# Altium integrated library Maxim Analog Filters.IntLib: 555 symbols (part 1 of 26)
Pins are listed as number, name and electrical type; pins without a type are passive.

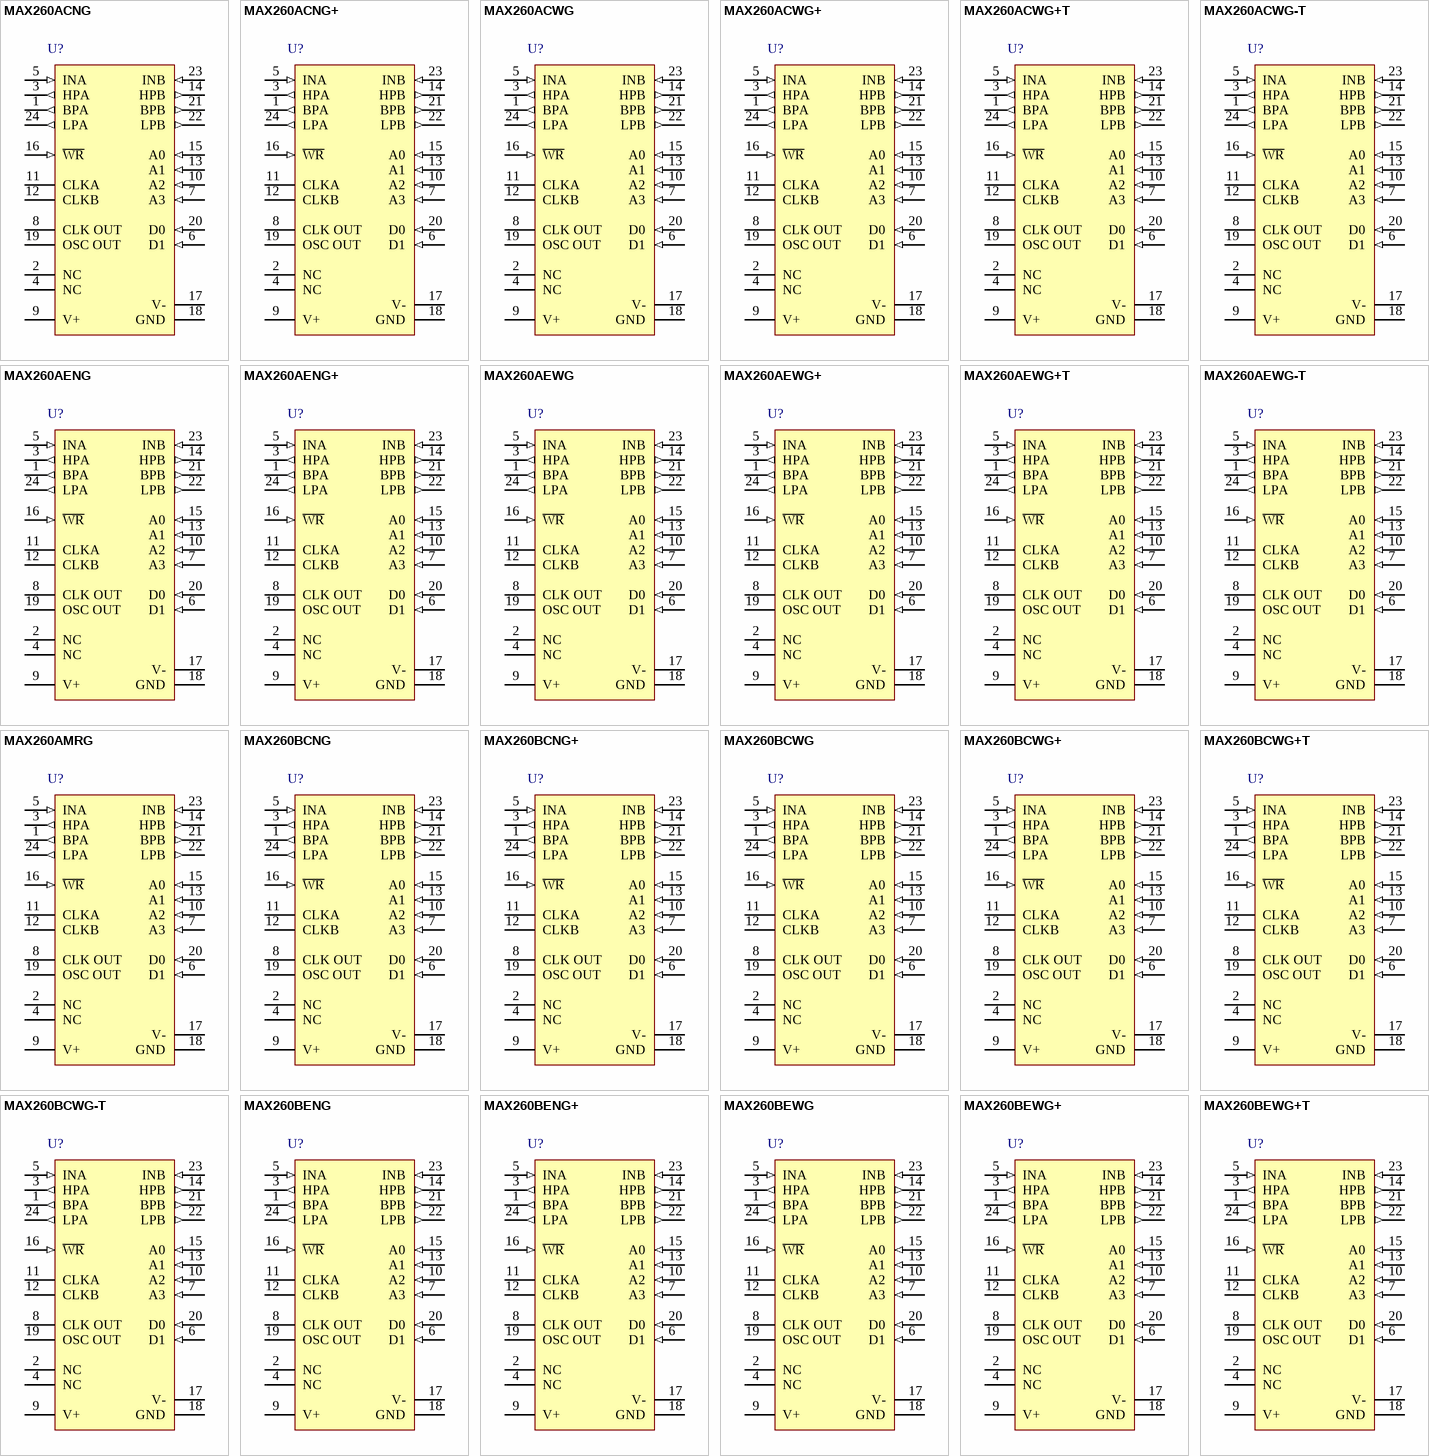
[diagram p0: symbols MAX260ACNG to MAX260BEWG+T]

## MAX260ACNG
designator U?
Universal Switched Capacitor Filter, uP Bus Programmable, 0 to 70 degC, 24-Pin DIP (N24-4); Generic Part Number: MAX260; PartNumber: MAX260ACNG; Filter Sections: 2; Program Method: uP Bus; DatasheetVersion: Rev. 2; PackageVersion: Rev. E, 04/2011; PackageReference: N24-4; PackageDescription: 24-Pin Plastic Dual-In-Line, Narrow (0.3in) (N24-4), Body 30.545 x 6.895 mm, Pitch 2.54 mm; Supplier 1: Mouser; Supplier Part Number 1: N/A; Filter Characteristic: Programmable; Filter Class: Switched Cap; Filter Type: Universal; Order Per Filter Section: 2; Mounting Technology: Through Hole; Code_JEDEC: MS001-XX; ComponentLink1Description: Manufacturer URL; ComponentLink1URL: http://www.maximintegrated.com/; ComponentLink2Description: Datasheet; ComponentLink2URL: http://datasheets.maximintegrated.com/en/ds/MAX260-MAX262.pdf; ComponentLink3Description: Package Specification; ComponentLink3URL: http://pdfserv.maximintegrated.com/package_dwgs/21-0043.PDF
footprint MAXM-N24-4 (DIP, 24-Leads, Body 30.545x6.985mm, Pitch 2.54mm)
pins: 1 BPA (out) "Bandpass output", 2 NC, 3 HPA (out) "Highpass/notch/allpass output", 4 NC, 5 INA (in) "Filter input", 6 D1 (in) "Data input for f0 and Q programming", 7 A3 (in) "Address input for f0 and Q input data locations", 8 CLK OUT "Clock output for crystal and R-C oscillator operation", 9 V+ (power) "Positive supply voltage", 10 A2 (in) "Address input for f0 and Q input data locations", 11 CLKA "Input to the oscillator and clock input to section A. This clock is internally divided by 2.", 12 CLKB "Clock input to filter B. This clock is internally divided by 2.", 13 A1 (in) "Address input for f0 and Q input data locations", 14 HPB (out) "Highpass/notch/allpass output", 15 A0 (in) "Address input for f0 and Q input data locations", 16 ~{WR} (in) "Write enable input", 17 V- (power) "Negative supply voltage", 18 GND (power) "Analog Ground. Connect to the system ground for dual supply operation or mid-supply for single supply operation. GND should be well bypassed in single supply applications.", 19 OSC OUT "Connects to crystal or R-C for self-clocked operation", 20 D0 (in) "Data input for f0 and Q programming", 21 BPB (out) "Bandpass output", 22 LPB (out) "Lowpass output", 23 INB (in) "Filter input", 24 LPA (out) "Lowpass output"

## MAX260ACNG+
designator U?
Universal Switched Capacitor Filter, uP Bus Programmable, 0 to 70 degC, 24-Pin DIP (N24+4), Pb-Free; Generic Part Number: MAX260; PartNumber: MAX260ACNG+; Filter Sections: 2; Program Method: uP Bus; DatasheetVersion: Rev. 2; PackageVersion: Rev. E, 04/2011; PackageReference: N24+4; PackageDescription: 24-Pin Plastic Dual-In-Line, Narrow (0.3in) (N24+4), Body 30.545 x 6.985 mm, Pitch 2.54 mm; Supplier 1: Mouser; Supplier Part Number 1: N/A; Filter Characteristic: Programmable; Filter Class: Switched Cap; Filter Type: Universal; Order Per Filter Section: 2; RoHS: Pb-Free; Mounting Technology: Through Hole; Code_JEDEC: MS001-XX; ComponentLink1Description: Manufacturer URL; ComponentLink1URL: http://www.maximintegrated.com/; ComponentLink2Description: Datasheet; ComponentLink2URL: http://datasheets.maximintegrated.com/en/ds/MAX260-MAX262.pdf; ComponentLink3Description: Package Specification; ComponentLink3URL: http://pdfserv.maximintegrated.com/package_dwgs/21-0043.PDF
footprint MAXM-N24+4 (DIP, 24-Leads, Body 30.545x6.985mm, Pitch 2.54mm)
pins: 1 BPA (out) "Bandpass output", 2 NC, 3 HPA (out) "Highpass/notch/allpass output", 4 NC, 5 INA (in) "Filter input", 6 D1 (in) "Data input for f0 and Q programming", 7 A3 (in) "Address input for f0 and Q input data locations", 8 CLK OUT "Clock output for crystal and R-C oscillator operation", 9 V+ (power) "Positive supply voltage", 10 A2 (in) "Address input for f0 and Q input data locations", 11 CLKA "Input to the oscillator and clock input to section A. This clock is internally divided by 2.", 12 CLKB "Clock input to filter B. This clock is internally divided by 2.", 13 A1 (in) "Address input for f0 and Q input data locations", 14 HPB (out) "Highpass/notch/allpass output", 15 A0 (in) "Address input for f0 and Q input data locations", 16 ~{WR} (in) "Write enable input", 17 V- (power) "Negative supply voltage", 18 GND (power) "Analog Ground. Connect to the system ground for dual supply operation or mid-supply for single supply operation. GND should be well bypassed in single supply applications.", 19 OSC OUT "Connects to crystal or R-C for self-clocked operation", 20 D0 (in) "Data input for f0 and Q programming", 21 BPB (out) "Bandpass output", 22 LPB (out) "Lowpass output", 23 INB (in) "Filter input", 24 LPA (out) "Lowpass output"

## MAX260ACWG
designator U?
Universal Switched Capacitor Filter, uP Bus Programmable, 0 to 70 degC, 24-Pin SOIC (W24-3); Generic Part Number: MAX260; PartNumber: MAX260ACWG; Filter Sections: 2; Program Method: uP Bus; DatasheetVersion: Rev. 2; PackageVersion: Rev. F, 10/2012; PackageReference: W24-3; PackageDescription: 24-Pin Small-Outline IC, Wide (0.3in) (W24-3), Body 15.4 x 7.5 mm, Pitch 1.27 mm; Supplier 1: Mouser; Supplier Part Number 1: N/A; Filter Characteristic: Programmable; Filter Class: Switched Cap; Filter Type: Universal; Order Per Filter Section: 2; Mounting Technology: Surface Mount; Code_JEDEC: MS013; ComponentLink1Description: Manufacturer URL; ComponentLink1URL: http://www.maximintegrated.com/; ComponentLink2Description: Datasheet; ComponentLink2URL: http://datasheets.maximintegrated.com/en/ds/MAX260-MAX262.pdf; ComponentLink3Description: Package Specification; ComponentLink3URL: http://pdfserv.maximintegrated.com/package_dwgs/21-0042.PDF
footprint MAXM-W24-3_N (SOIC, 24-Leads, Body 15.4x7.5mm, Pitch 1.27mm, IPC Medium Density)
footprint MAXM-W24-3_L (SOIC, 24-Leads, Body 15.4x7.5mm, Pitch 1.27mm, IPC High Density)
footprint MAXM-W24-3_M (SOIC, 24-Leads, Body 15.4x7.5mm, Pitch 1.27mm, IPC Low Density)
pins: 1 BPA (out) "Bandpass output", 2 NC, 3 HPA (out) "Highpass/notch/allpass output", 4 NC, 5 INA (in) "Filter input", 6 D1 (in) "Data input for f0 and Q programming", 7 A3 (in) "Address input for f0 and Q input data locations", 8 CLK OUT "Clock output for crystal and R-C oscillator operation", 9 V+ (power) "Positive supply voltage", 10 A2 (in) "Address input for f0 and Q input data locations", 11 CLKA "Input to the oscillator and clock input to section A. This clock is internally divided by 2.", 12 CLKB "Clock input to filter B. This clock is internally divided by 2.", 13 A1 (in) "Address input for f0 and Q input data locations", 14 HPB (out) "Highpass/notch/allpass output", 15 A0 (in) "Address input for f0 and Q input data locations", 16 ~{WR} (in) "Write enable input", 17 V- (power) "Negative supply voltage", 18 GND (power) "Analog Ground. Connect to the system ground for dual supply operation or mid-supply for single supply operation. GND should be well bypassed in single supply applications.", 19 OSC OUT "Connects to crystal or R-C for self-clocked operation", 20 D0 (in) "Data input for f0 and Q programming", 21 BPB (out) "Bandpass output", 22 LPB (out) "Lowpass output", 23 INB (in) "Filter input", 24 LPA (out) "Lowpass output"

## MAX260ACWG+
designator U?
Universal Switched Capacitor Filter, uP Bus Programmable, 0 to 70 degC, 24-Pin SOIC (W24+3), Pb-Free; Generic Part Number: MAX260; PartNumber: MAX260ACWG+; Filter Sections: 2; Program Method: uP Bus; DatasheetVersion: Rev. 2; PackageVersion: Rev. F, 10/2012; PackageReference: W24+3; PackageDescription: 24-Pin Small-Outline IC, Wide (0.3in) (W24+3), Body 15.4 x 7.5 mm, Pitch 1.27 mm; Supplier 1: Mouser; Supplier Part Number 1: N/A; Filter Characteristic: Programmable; Filter Class: Switched Cap; Filter Type: Universal; Order Per Filter Section: 2; RoHS: Pb-Free; Mounting Technology: Surface Mount; Code_JEDEC: MS013; ComponentLink1Description: Manufacturer URL; ComponentLink1URL: http://www.maximintegrated.com/; ComponentLink2Description: Datasheet; ComponentLink2URL: http://datasheets.maximintegrated.com/en/ds/MAX260-MAX262.pdf; ComponentLink3Description: Package Specification; ComponentLink3URL: http://pdfserv.maximintegrated.com/package_dwgs/21-0042.PDF
footprint MAXM-W24+3_N (SOIC, 24-Leads, Body 15.4x7.5mm, Pitch 1.27mm, IPC Medium Density)
footprint MAXM-W24+3_L (SOIC, 24-Leads, Body 15.4x7.5mm, Pitch 1.27mm, IPC High Density)
footprint MAXM-W24+3_M (SOIC, 24-Leads, Body 15.4x7.5mm, Pitch 1.27mm, IPC Low Density)
pins: 1 BPA (out) "Bandpass output", 2 NC, 3 HPA (out) "Highpass/notch/allpass output", 4 NC, 5 INA (in) "Filter input", 6 D1 (in) "Data input for f0 and Q programming", 7 A3 (in) "Address input for f0 and Q input data locations", 8 CLK OUT "Clock output for crystal and R-C oscillator operation", 9 V+ (power) "Positive supply voltage", 10 A2 (in) "Address input for f0 and Q input data locations", 11 CLKA "Input to the oscillator and clock input to section A. This clock is internally divided by 2.", 12 CLKB "Clock input to filter B. This clock is internally divided by 2.", 13 A1 (in) "Address input for f0 and Q input data locations", 14 HPB (out) "Highpass/notch/allpass output", 15 A0 (in) "Address input for f0 and Q input data locations", 16 ~{WR} (in) "Write enable input", 17 V- (power) "Negative supply voltage", 18 GND (power) "Analog Ground. Connect to the system ground for dual supply operation or mid-supply for single supply operation. GND should be well bypassed in single supply applications.", 19 OSC OUT "Connects to crystal or R-C for self-clocked operation", 20 D0 (in) "Data input for f0 and Q programming", 21 BPB (out) "Bandpass output", 22 LPB (out) "Lowpass output", 23 INB (in) "Filter input", 24 LPA (out) "Lowpass output"

## MAX260ACWG+T
designator U?
Universal Switched Capacitor Filter, uP Bus Programmable, 0 to 70 degC, 24-Pin SOIC (W24+3), Pb-Free, Tape and Reel; Generic Part Number: MAX260; PartNumber: MAX260ACWG+T; Filter Sections: 2; Program Method: uP Bus; DatasheetVersion: Rev. 2; PackageVersion: Rev. F, 10/2012; PackageReference: W24+3; PackageDescription: 24-Pin Small-Outline IC, Wide (0.3in) (W24+3), Body 15.4 x 7.5 mm, Pitch 1.27 mm; Supplier 1: Mouser; Supplier Part Number 1: N/A; Filter Characteristic: Programmable; Filter Class: Switched Cap; Filter Type: Universal; Order Per Filter Section: 2; Packing: Tape and Reel; RoHS: Pb-Free; Mounting Technology: Surface Mount; Code_JEDEC: MS013; ComponentLink1Description: Manufacturer URL; ComponentLink1URL: http://www.maximintegrated.com/; ComponentLink2Description: Datasheet; ComponentLink2URL: http://datasheets.maximintegrated.com/en/ds/MAX260-MAX262.pdf; ComponentLink3Description: Package Specification; ComponentLink3URL: http://pdfserv.maximintegrated.com/package_dwgs/21-0042.PDF
footprint MAXM-W24+3_N (SOIC, 24-Leads, Body 15.4x7.5mm, Pitch 1.27mm, IPC Medium Density)
footprint MAXM-W24+3_L (SOIC, 24-Leads, Body 15.4x7.5mm, Pitch 1.27mm, IPC High Density)
footprint MAXM-W24+3_M (SOIC, 24-Leads, Body 15.4x7.5mm, Pitch 1.27mm, IPC Low Density)
pins: 1 BPA (out) "Bandpass output", 2 NC, 3 HPA (out) "Highpass/notch/allpass output", 4 NC, 5 INA (in) "Filter input", 6 D1 (in) "Data input for f0 and Q programming", 7 A3 (in) "Address input for f0 and Q input data locations", 8 CLK OUT "Clock output for crystal and R-C oscillator operation", 9 V+ (power) "Positive supply voltage", 10 A2 (in) "Address input for f0 and Q input data locations", 11 CLKA "Input to the oscillator and clock input to section A. This clock is internally divided by 2.", 12 CLKB "Clock input to filter B. This clock is internally divided by 2.", 13 A1 (in) "Address input for f0 and Q input data locations", 14 HPB (out) "Highpass/notch/allpass output", 15 A0 (in) "Address input for f0 and Q input data locations", 16 ~{WR} (in) "Write enable input", 17 V- (power) "Negative supply voltage", 18 GND (power) "Analog Ground. Connect to the system ground for dual supply operation or mid-supply for single supply operation. GND should be well bypassed in single supply applications.", 19 OSC OUT "Connects to crystal or R-C for self-clocked operation", 20 D0 (in) "Data input for f0 and Q programming", 21 BPB (out) "Bandpass output", 22 LPB (out) "Lowpass output", 23 INB (in) "Filter input", 24 LPA (out) "Lowpass output"

## MAX260ACWG-T
designator U?
Universal Switched Capacitor Filter, uP Bus Programmable, 0 to 70 degC, 24-Pin SOIC (W24-3), Tape and Reel; Generic Part Number: MAX260; PartNumber: MAX260ACWG-T; Filter Sections: 2; Program Method: uP Bus; DatasheetVersion: Rev. 2; PackageVersion: Rev. F, 10/2012; PackageReference: W24-3; PackageDescription: 24-Pin Small-Outline IC, Wide (0.3in) (W24-3), Body 15.4 x 7.5 mm, Pitch 1.27 mm; Supplier 1: Mouser; Supplier Part Number 1: N/A; Filter Characteristic: Programmable; Filter Class: Switched Cap; Filter Type: Universal; Order Per Filter Section: 2; Packing: Tape and Reel; Mounting Technology: Surface Mount; Code_JEDEC: MS013; ComponentLink1Description: Manufacturer URL; ComponentLink1URL: http://www.maximintegrated.com/; ComponentLink2Description: Datasheet; ComponentLink2URL: http://datasheets.maximintegrated.com/en/ds/MAX260-MAX262.pdf; ComponentLink3Description: Package Specification; ComponentLink3URL: http://pdfserv.maximintegrated.com/package_dwgs/21-0042.PDF
footprint MAXM-W24-3_N (SOIC, 24-Leads, Body 15.4x7.5mm, Pitch 1.27mm, IPC Medium Density)
footprint MAXM-W24-3_L (SOIC, 24-Leads, Body 15.4x7.5mm, Pitch 1.27mm, IPC High Density)
footprint MAXM-W24-3_M (SOIC, 24-Leads, Body 15.4x7.5mm, Pitch 1.27mm, IPC Low Density)
pins: 1 BPA (out) "Bandpass output", 2 NC, 3 HPA (out) "Highpass/notch/allpass output", 4 NC, 5 INA (in) "Filter input", 6 D1 (in) "Data input for f0 and Q programming", 7 A3 (in) "Address input for f0 and Q input data locations", 8 CLK OUT "Clock output for crystal and R-C oscillator operation", 9 V+ (power) "Positive supply voltage", 10 A2 (in) "Address input for f0 and Q input data locations", 11 CLKA "Input to the oscillator and clock input to section A. This clock is internally divided by 2.", 12 CLKB "Clock input to filter B. This clock is internally divided by 2.", 13 A1 (in) "Address input for f0 and Q input data locations", 14 HPB (out) "Highpass/notch/allpass output", 15 A0 (in) "Address input for f0 and Q input data locations", 16 ~{WR} (in) "Write enable input", 17 V- (power) "Negative supply voltage", 18 GND (power) "Analog Ground. Connect to the system ground for dual supply operation or mid-supply for single supply operation. GND should be well bypassed in single supply applications.", 19 OSC OUT "Connects to crystal or R-C for self-clocked operation", 20 D0 (in) "Data input for f0 and Q programming", 21 BPB (out) "Bandpass output", 22 LPB (out) "Lowpass output", 23 INB (in) "Filter input", 24 LPA (out) "Lowpass output"

## MAX260AENG
designator U?
Universal Switched Capacitor Filter, uP Bus Programmable, -40 to 85 degC, 24-Pin DIP (N24-4); Generic Part Number: MAX260; PartNumber: MAX260AENG; Filter Sections: 2; Program Method: uP Bus; DatasheetVersion: Rev. 2; PackageVersion: Rev. E, 04/2011; PackageReference: N24-4; PackageDescription: 24-Pin Plastic Dual-In-Line, Narrow (0.3in) (N24-4), Body 30.545 x 6.895 mm, Pitch 2.54 mm; Supplier 1: Mouser; Supplier Part Number 1: N/A; Filter Characteristic: Programmable; Filter Class: Switched Cap; Filter Type: Universal; Order Per Filter Section: 2; Mounting Technology: Through Hole; Code_JEDEC: MS001-XX; ComponentLink1Description: Manufacturer URL; ComponentLink1URL: http://www.maximintegrated.com/; ComponentLink2Description: Datasheet; ComponentLink2URL: http://datasheets.maximintegrated.com/en/ds/MAX260-MAX262.pdf; ComponentLink3Description: Package Specification; ComponentLink3URL: http://pdfserv.maximintegrated.com/package_dwgs/21-0043.PDF
footprint MAXM-N24-4 (DIP, 24-Leads, Body 30.545x6.985mm, Pitch 2.54mm)
pins: 1 BPA (out) "Bandpass output", 2 NC, 3 HPA (out) "Highpass/notch/allpass output", 4 NC, 5 INA (in) "Filter input", 6 D1 (in) "Data input for f0 and Q programming", 7 A3 (in) "Address input for f0 and Q input data locations", 8 CLK OUT "Clock output for crystal and R-C oscillator operation", 9 V+ (power) "Positive supply voltage", 10 A2 (in) "Address input for f0 and Q input data locations", 11 CLKA "Input to the oscillator and clock input to section A. This clock is internally divided by 2.", 12 CLKB "Clock input to filter B. This clock is internally divided by 2.", 13 A1 (in) "Address input for f0 and Q input data locations", 14 HPB (out) "Highpass/notch/allpass output", 15 A0 (in) "Address input for f0 and Q input data locations", 16 ~{WR} (in) "Write enable input", 17 V- (power) "Negative supply voltage", 18 GND (power) "Analog Ground. Connect to the system ground for dual supply operation or mid-supply for single supply operation. GND should be well bypassed in single supply applications.", 19 OSC OUT "Connects to crystal or R-C for self-clocked operation", 20 D0 (in) "Data input for f0 and Q programming", 21 BPB (out) "Bandpass output", 22 LPB (out) "Lowpass output", 23 INB (in) "Filter input", 24 LPA (out) "Lowpass output"

## MAX260AENG+
designator U?
Universal Switched Capacitor Filter, uP Bus Programmable, -40 to 85 degC, 24-Pin DIP (N24+4), Pb-Free; Generic Part Number: MAX260; PartNumber: MAX260AENG+; Filter Sections: 2; Program Method: uP Bus; DatasheetVersion: Rev. 2; PackageVersion: Rev. E, 04/2011; PackageReference: N24+4; PackageDescription: 24-Pin Plastic Dual-In-Line, Narrow (0.3in) (N24+4), Body 30.545 x 6.985 mm, Pitch 2.54 mm; Filter Characteristic: Programmable; Filter Class: Switched Cap; Filter Type: Universal; Order Per Filter Section: 2; RoHS: Pb-Free; Mounting Technology: Through Hole; Code_JEDEC: MS001-XX; ComponentLink1Description: Manufacturer URL; ComponentLink1URL: http://www.maximintegrated.com/; ComponentLink2Description: Datasheet; ComponentLink2URL: http://datasheets.maximintegrated.com/en/ds/MAX260-MAX262.pdf; ComponentLink3Description: Package Specification; ComponentLink3URL: http://pdfserv.maximintegrated.com/package_dwgs/21-0043.PDF
footprint MAXM-N24+4 (DIP, 24-Leads, Body 30.545x6.985mm, Pitch 2.54mm)
pins: 1 BPA (out) "Bandpass output", 2 NC, 3 HPA (out) "Highpass/notch/allpass output", 4 NC, 5 INA (in) "Filter input", 6 D1 (in) "Data input for f0 and Q programming", 7 A3 (in) "Address input for f0 and Q input data locations", 8 CLK OUT "Clock output for crystal and R-C oscillator operation", 9 V+ (power) "Positive supply voltage", 10 A2 (in) "Address input for f0 and Q input data locations", 11 CLKA "Input to the oscillator and clock input to section A. This clock is internally divided by 2.", 12 CLKB "Clock input to filter B. This clock is internally divided by 2.", 13 A1 (in) "Address input for f0 and Q input data locations", 14 HPB (out) "Highpass/notch/allpass output", 15 A0 (in) "Address input for f0 and Q input data locations", 16 ~{WR} (in) "Write enable input", 17 V- (power) "Negative supply voltage", 18 GND (power) "Analog Ground. Connect to the system ground for dual supply operation or mid-supply for single supply operation. GND should be well bypassed in single supply applications.", 19 OSC OUT "Connects to crystal or R-C for self-clocked operation", 20 D0 (in) "Data input for f0 and Q programming", 21 BPB (out) "Bandpass output", 22 LPB (out) "Lowpass output", 23 INB (in) "Filter input", 24 LPA (out) "Lowpass output"

## MAX260AEWG
designator U?
Universal Switched Capacitor Filter, uP Bus Programmable, -40 to 85 degC, 24-Pin SOIC (W24-3); Generic Part Number: MAX260; PartNumber: MAX260AEWG; Filter Sections: 2; Program Method: uP Bus; DatasheetVersion: Rev. 2; PackageVersion: Rev. F, 10/2012; PackageReference: W24-3; PackageDescription: 24-Pin Small-Outline IC, Wide (0.3in) (W24-3), Body 15.4 x 7.5 mm, Pitch 1.27 mm; Supplier 1: Mouser; Supplier Part Number 1: N/A; Filter Characteristic: Programmable; Filter Class: Switched Cap; Filter Type: Universal; Order Per Filter Section: 2; Mounting Technology: Surface Mount; Code_JEDEC: MS013; ComponentLink1Description: Manufacturer URL; ComponentLink1URL: http://www.maximintegrated.com/; ComponentLink2Description: Datasheet; ComponentLink2URL: http://datasheets.maximintegrated.com/en/ds/MAX260-MAX262.pdf; ComponentLink3Description: Package Specification; ComponentLink3URL: http://pdfserv.maximintegrated.com/package_dwgs/21-0042.PDF
footprint MAXM-W24-3_N (SOIC, 24-Leads, Body 15.4x7.5mm, Pitch 1.27mm, IPC Medium Density)
footprint MAXM-W24-3_L (SOIC, 24-Leads, Body 15.4x7.5mm, Pitch 1.27mm, IPC High Density)
footprint MAXM-W24-3_M (SOIC, 24-Leads, Body 15.4x7.5mm, Pitch 1.27mm, IPC Low Density)
pins: 1 BPA (out) "Bandpass output", 2 NC, 3 HPA (out) "Highpass/notch/allpass output", 4 NC, 5 INA (in) "Filter input", 6 D1 (in) "Data input for f0 and Q programming", 7 A3 (in) "Address input for f0 and Q input data locations", 8 CLK OUT "Clock output for crystal and R-C oscillator operation", 9 V+ (power) "Positive supply voltage", 10 A2 (in) "Address input for f0 and Q input data locations", 11 CLKA "Input to the oscillator and clock input to section A. This clock is internally divided by 2.", 12 CLKB "Clock input to filter B. This clock is internally divided by 2.", 13 A1 (in) "Address input for f0 and Q input data locations", 14 HPB (out) "Highpass/notch/allpass output", 15 A0 (in) "Address input for f0 and Q input data locations", 16 ~{WR} (in) "Write enable input", 17 V- (power) "Negative supply voltage", 18 GND (power) "Analog Ground. Connect to the system ground for dual supply operation or mid-supply for single supply operation. GND should be well bypassed in single supply applications.", 19 OSC OUT "Connects to crystal or R-C for self-clocked operation", 20 D0 (in) "Data input for f0 and Q programming", 21 BPB (out) "Bandpass output", 22 LPB (out) "Lowpass output", 23 INB (in) "Filter input", 24 LPA (out) "Lowpass output"

## MAX260AEWG+
designator U?
Universal Switched Capacitor Filter, uP Bus Programmable, -40 to 85 degC, 24-Pin SOIC (W24+3), Pb-Free; Generic Part Number: MAX260; PartNumber: MAX260AEWG+; Filter Sections: 2; Program Method: uP Bus; DatasheetVersion: Rev. 2; PackageVersion: Rev. F, 10/2012; PackageReference: W24+3; PackageDescription: 24-Pin Small-Outline IC, Wide (0.3in) (W24+3), Body 15.4 x 7.5 mm, Pitch 1.27 mm; Supplier 1: Mouser; Supplier Part Number 1: N/A; Filter Characteristic: Programmable; Filter Class: Switched Cap; Filter Type: Universal; Order Per Filter Section: 2; RoHS: Pb-Free; Mounting Technology: Surface Mount; Code_JEDEC: MS013; ComponentLink1Description: Manufacturer URL; ComponentLink1URL: http://www.maximintegrated.com/; ComponentLink2Description: Datasheet; ComponentLink2URL: http://datasheets.maximintegrated.com/en/ds/MAX260-MAX262.pdf; ComponentLink3Description: Package Specification; ComponentLink3URL: http://pdfserv.maximintegrated.com/package_dwgs/21-0042.PDF
footprint MAXM-W24+3_N (SOIC, 24-Leads, Body 15.4x7.5mm, Pitch 1.27mm, IPC Medium Density)
footprint MAXM-W24+3_L (SOIC, 24-Leads, Body 15.4x7.5mm, Pitch 1.27mm, IPC High Density)
footprint MAXM-W24+3_M (SOIC, 24-Leads, Body 15.4x7.5mm, Pitch 1.27mm, IPC Low Density)
pins: 1 BPA (out) "Bandpass output", 2 NC, 3 HPA (out) "Highpass/notch/allpass output", 4 NC, 5 INA (in) "Filter input", 6 D1 (in) "Data input for f0 and Q programming", 7 A3 (in) "Address input for f0 and Q input data locations", 8 CLK OUT "Clock output for crystal and R-C oscillator operation", 9 V+ (power) "Positive supply voltage", 10 A2 (in) "Address input for f0 and Q input data locations", 11 CLKA "Input to the oscillator and clock input to section A. This clock is internally divided by 2.", 12 CLKB "Clock input to filter B. This clock is internally divided by 2.", 13 A1 (in) "Address input for f0 and Q input data locations", 14 HPB (out) "Highpass/notch/allpass output", 15 A0 (in) "Address input for f0 and Q input data locations", 16 ~{WR} (in) "Write enable input", 17 V- (power) "Negative supply voltage", 18 GND (power) "Analog Ground. Connect to the system ground for dual supply operation or mid-supply for single supply operation. GND should be well bypassed in single supply applications.", 19 OSC OUT "Connects to crystal or R-C for self-clocked operation", 20 D0 (in) "Data input for f0 and Q programming", 21 BPB (out) "Bandpass output", 22 LPB (out) "Lowpass output", 23 INB (in) "Filter input", 24 LPA (out) "Lowpass output"

## MAX260AEWG+T
designator U?
Universal Switched Capacitor Filter, uP Bus Programmable, -40 to 85 degC, 24-Pin SOIC (W24+3), Pb-Free, Tape and Reel; Generic Part Number: MAX260; PartNumber: MAX260AEWG+T; Filter Sections: 2; Program Method: uP Bus; DatasheetVersion: Rev. 2; PackageVersion: Rev. F, 10/2012; PackageReference: W24+3; PackageDescription: 24-Pin Small-Outline IC, Wide (0.3in) (W24+3), Body 15.4 x 7.5 mm, Pitch 1.27 mm; Supplier 1: Mouser; Supplier Part Number 1: N/A; Filter Characteristic: Programmable; Filter Class: Switched Cap; Filter Type: Universal; Order Per Filter Section: 2; Packing: Tape and Reel; RoHS: Pb-Free; Mounting Technology: Surface Mount; Code_JEDEC: MS013; ComponentLink1Description: Manufacturer URL; ComponentLink1URL: http://www.maximintegrated.com/; ComponentLink2Description: Datasheet; ComponentLink2URL: http://datasheets.maximintegrated.com/en/ds/MAX260-MAX262.pdf; ComponentLink3Description: Package Specification; ComponentLink3URL: http://pdfserv.maximintegrated.com/package_dwgs/21-0042.PDF
footprint MAXM-W24+3_N (SOIC, 24-Leads, Body 15.4x7.5mm, Pitch 1.27mm, IPC Medium Density)
footprint MAXM-W24+3_L (SOIC, 24-Leads, Body 15.4x7.5mm, Pitch 1.27mm, IPC High Density)
footprint MAXM-W24+3_M (SOIC, 24-Leads, Body 15.4x7.5mm, Pitch 1.27mm, IPC Low Density)
pins: 1 BPA (out) "Bandpass output", 2 NC, 3 HPA (out) "Highpass/notch/allpass output", 4 NC, 5 INA (in) "Filter input", 6 D1 (in) "Data input for f0 and Q programming", 7 A3 (in) "Address input for f0 and Q input data locations", 8 CLK OUT "Clock output for crystal and R-C oscillator operation", 9 V+ (power) "Positive supply voltage", 10 A2 (in) "Address input for f0 and Q input data locations", 11 CLKA "Input to the oscillator and clock input to section A. This clock is internally divided by 2.", 12 CLKB "Clock input to filter B. This clock is internally divided by 2.", 13 A1 (in) "Address input for f0 and Q input data locations", 14 HPB (out) "Highpass/notch/allpass output", 15 A0 (in) "Address input for f0 and Q input data locations", 16 ~{WR} (in) "Write enable input", 17 V- (power) "Negative supply voltage", 18 GND (power) "Analog Ground. Connect to the system ground for dual supply operation or mid-supply for single supply operation. GND should be well bypassed in single supply applications.", 19 OSC OUT "Connects to crystal or R-C for self-clocked operation", 20 D0 (in) "Data input for f0 and Q programming", 21 BPB (out) "Bandpass output", 22 LPB (out) "Lowpass output", 23 INB (in) "Filter input", 24 LPA (out) "Lowpass output"

## MAX260AEWG-T
designator U?
Universal Switched Capacitor Filter, uP Bus Programmable, -40 to 85 degC, 24-Pin SOIC (W24-3), Tape and Reel; Generic Part Number: MAX260; PartNumber: MAX260AEWG-T; Filter Sections: 2; Program Method: uP Bus; DatasheetVersion: Rev. 2; PackageVersion: Rev. F, 10/2012; PackageReference: W24-3; PackageDescription: 24-Pin Small-Outline IC, Wide (0.3in) (W24-3), Body 15.4 x 7.5 mm, Pitch 1.27 mm; Supplier 1: Mouser; Supplier Part Number 1: N/A; Filter Characteristic: Programmable; Filter Class: Switched Cap; Filter Type: Universal; Order Per Filter Section: 2; Packing: Tape and Reel; Mounting Technology: Surface Mount; Code_JEDEC: MS013; ComponentLink1Description: Manufacturer URL; ComponentLink1URL: http://www.maximintegrated.com/; ComponentLink2Description: Datasheet; ComponentLink2URL: http://datasheets.maximintegrated.com/en/ds/MAX260-MAX262.pdf; ComponentLink3Description: Package Specification; ComponentLink3URL: http://pdfserv.maximintegrated.com/package_dwgs/21-0042.PDF
footprint MAXM-W24-3_N (SOIC, 24-Leads, Body 15.4x7.5mm, Pitch 1.27mm, IPC Medium Density)
footprint MAXM-W24-3_L (SOIC, 24-Leads, Body 15.4x7.5mm, Pitch 1.27mm, IPC High Density)
footprint MAXM-W24-3_M (SOIC, 24-Leads, Body 15.4x7.5mm, Pitch 1.27mm, IPC Low Density)
pins: 1 BPA (out) "Bandpass output", 2 NC, 3 HPA (out) "Highpass/notch/allpass output", 4 NC, 5 INA (in) "Filter input", 6 D1 (in) "Data input for f0 and Q programming", 7 A3 (in) "Address input for f0 and Q input data locations", 8 CLK OUT "Clock output for crystal and R-C oscillator operation", 9 V+ (power) "Positive supply voltage", 10 A2 (in) "Address input for f0 and Q input data locations", 11 CLKA "Input to the oscillator and clock input to section A. This clock is internally divided by 2.", 12 CLKB "Clock input to filter B. This clock is internally divided by 2.", 13 A1 (in) "Address input for f0 and Q input data locations", 14 HPB (out) "Highpass/notch/allpass output", 15 A0 (in) "Address input for f0 and Q input data locations", 16 ~{WR} (in) "Write enable input", 17 V- (power) "Negative supply voltage", 18 GND (power) "Analog Ground. Connect to the system ground for dual supply operation or mid-supply for single supply operation. GND should be well bypassed in single supply applications.", 19 OSC OUT "Connects to crystal or R-C for self-clocked operation", 20 D0 (in) "Data input for f0 and Q programming", 21 BPB (out) "Bandpass output", 22 LPB (out) "Lowpass output", 23 INB (in) "Filter input", 24 LPA (out) "Lowpass output"

## MAX260AMRG
designator U?
Universal Switched Capacitor Filter, uP Bus Programmable, -55 to 125 degC, 24-Pin DIP (R24-4); Generic Part Number: MAX260; PartNumber: MAX260AMRG; Filter Sections: 2; Program Method: uP Bus; DatasheetVersion: Rev. 2; PackageVersion: Rev. B, 05/2011; PackageReference: R24-4; PackageDescription: 24-Pin Ceramic Dual-In-Line, Narrow (0.3in) (R24-4), Body 32.51 x 6.73 mm, Pitch 2.54 mm; Supplier 1: Mouser; Supplier Part Number 1: N/A; Filter Characteristic: Programmable; Filter Class: Switched Cap; Filter Type: Universal; Order Per Filter Section: 2; Mounting Technology: Through Hole; ComponentLink1Description: Manufacturer URL; ComponentLink1URL: http://www.maximintegrated.com/; ComponentLink2Description: Datasheet; ComponentLink2URL: http://datasheets.maximintegrated.com/en/ds/MAX260-MAX262.pdf; ComponentLink3Description: Package Specification; ComponentLink3URL: http://pdfserv.maximintegrated.com/package_dwgs/21-0045.PDF
footprint MAXM-R24-4 (DIP, 24-Leads, Body 32.51x6.73mm, Pitch 2.54mm)
pins: 1 BPA (out) "Bandpass output", 2 NC, 3 HPA (out) "Highpass/notch/allpass output", 4 NC, 5 INA (in) "Filter input", 6 D1 (in) "Data input for f0 and Q programming", 7 A3 (in) "Address input for f0 and Q input data locations", 8 CLK OUT "Clock output for crystal and R-C oscillator operation", 9 V+ (power) "Positive supply voltage", 10 A2 (in) "Address input for f0 and Q input data locations", 11 CLKA "Input to the oscillator and clock input to section A. This clock is internally divided by 2.", 12 CLKB "Clock input to filter B. This clock is internally divided by 2.", 13 A1 (in) "Address input for f0 and Q input data locations", 14 HPB (out) "Highpass/notch/allpass output", 15 A0 (in) "Address input for f0 and Q input data locations", 16 ~{WR} (in) "Write enable input", 17 V- (power) "Negative supply voltage", 18 GND (power) "Analog Ground. Connect to the system ground for dual supply operation or mid-supply for single supply operation. GND should be well bypassed in single supply applications.", 19 OSC OUT "Connects to crystal or R-C for self-clocked operation", 20 D0 (in) "Data input for f0 and Q programming", 21 BPB (out) "Bandpass output", 22 LPB (out) "Lowpass output", 23 INB (in) "Filter input", 24 LPA (out) "Lowpass output"

## MAX260BCNG
designator U?
Universal Switched Capacitor Filter, uP Bus Programmable, 0 to 70 degC, 24-Pin DIP (N24-4); Generic Part Number: MAX260; PartNumber: MAX260BCNG; Filter Sections: 2; Program Method: uP Bus; DatasheetVersion: Rev. 2; PackageVersion: Rev. E, 04/2011; PackageReference: N24-4; PackageDescription: 24-Pin Plastic Dual-In-Line, Narrow (0.3in) (N24-4), Body 30.545 x 6.895 mm, Pitch 2.54 mm; Supplier 1: Mouser; Supplier Part Number 1: N/A; Filter Characteristic: Programmable; Filter Class: Switched Cap; Filter Type: Universal; Order Per Filter Section: 2; Mounting Technology: Through Hole; Code_JEDEC: MS001-XX; ComponentLink1Description: Manufacturer URL; ComponentLink1URL: http://www.maximintegrated.com/; ComponentLink2Description: Datasheet; ComponentLink2URL: http://datasheets.maximintegrated.com/en/ds/MAX260-MAX262.pdf; ComponentLink3Description: Package Specification; ComponentLink3URL: http://pdfserv.maximintegrated.com/package_dwgs/21-0043.PDF
footprint MAXM-N24-4 (DIP, 24-Leads, Body 30.545x6.985mm, Pitch 2.54mm)
pins: 1 BPA (out) "Bandpass output", 2 NC, 3 HPA (out) "Highpass/notch/allpass output", 4 NC, 5 INA (in) "Filter input", 6 D1 (in) "Data input for f0 and Q programming", 7 A3 (in) "Address input for f0 and Q input data locations", 8 CLK OUT "Clock output for crystal and R-C oscillator operation", 9 V+ (power) "Positive supply voltage", 10 A2 (in) "Address input for f0 and Q input data locations", 11 CLKA "Input to the oscillator and clock input to section A. This clock is internally divided by 2.", 12 CLKB "Clock input to filter B. This clock is internally divided by 2.", 13 A1 (in) "Address input for f0 and Q input data locations", 14 HPB (out) "Highpass/notch/allpass output", 15 A0 (in) "Address input for f0 and Q input data locations", 16 ~{WR} (in) "Write enable input", 17 V- (power) "Negative supply voltage", 18 GND (power) "Analog Ground. Connect to the system ground for dual supply operation or mid-supply for single supply operation. GND should be well bypassed in single supply applications.", 19 OSC OUT "Connects to crystal or R-C for self-clocked operation", 20 D0 (in) "Data input for f0 and Q programming", 21 BPB (out) "Bandpass output", 22 LPB (out) "Lowpass output", 23 INB (in) "Filter input", 24 LPA (out) "Lowpass output"

## MAX260BCNG+
designator U?
Universal Switched Capacitor Filter, uP Bus Programmable, 0 to 70 degC, 24-Pin DIP (N24+4), Pb-Free; Generic Part Number: MAX260; PartNumber: MAX260BCNG+; Filter Sections: 2; Program Method: uP Bus; DatasheetVersion: Rev. 2; PackageVersion: Rev. E, 04/2011; PackageReference: N24+4; PackageDescription: 24-Pin Plastic Dual-In-Line, Narrow (0.3in) (N24+4), Body 30.545 x 6.985 mm, Pitch 2.54 mm; Supplier 1: Digi-Key; Supplier Part Number 1: MAX260BCNG+-ND; Supplier 2: Mouser; Supplier Part Number 2: 700-MAX260BCNG; Filter Characteristic: Programmable; Filter Class: Switched Cap; Filter Type: Universal; Order Per Filter Section: 2; RoHS: Pb-Free; Mounting Technology: Through Hole; Code_JEDEC: MS001-XX; ComponentLink1Description: Manufacturer URL; ComponentLink1URL: http://www.maximintegrated.com/; ComponentLink2Description: Datasheet; ComponentLink2URL: http://datasheets.maximintegrated.com/en/ds/MAX260-MAX262.pdf; ComponentLink3Description: Package Specification; ComponentLink3URL: http://pdfserv.maximintegrated.com/package_dwgs/21-0043.PDF
footprint MAXM-N24+4 (DIP, 24-Leads, Body 30.545x6.985mm, Pitch 2.54mm)
pins: 1 BPA (out) "Bandpass output", 2 NC, 3 HPA (out) "Highpass/notch/allpass output", 4 NC, 5 INA (in) "Filter input", 6 D1 (in) "Data input for f0 and Q programming", 7 A3 (in) "Address input for f0 and Q input data locations", 8 CLK OUT "Clock output for crystal and R-C oscillator operation", 9 V+ (power) "Positive supply voltage", 10 A2 (in) "Address input for f0 and Q input data locations", 11 CLKA "Input to the oscillator and clock input to section A. This clock is internally divided by 2.", 12 CLKB "Clock input to filter B. This clock is internally divided by 2.", 13 A1 (in) "Address input for f0 and Q input data locations", 14 HPB (out) "Highpass/notch/allpass output", 15 A0 (in) "Address input for f0 and Q input data locations", 16 ~{WR} (in) "Write enable input", 17 V- (power) "Negative supply voltage", 18 GND (power) "Analog Ground. Connect to the system ground for dual supply operation or mid-supply for single supply operation. GND should be well bypassed in single supply applications.", 19 OSC OUT "Connects to crystal or R-C for self-clocked operation", 20 D0 (in) "Data input for f0 and Q programming", 21 BPB (out) "Bandpass output", 22 LPB (out) "Lowpass output", 23 INB (in) "Filter input", 24 LPA (out) "Lowpass output"

## MAX260BCWG
designator U?
Universal Switched Capacitor Filter, uP Bus Programmable, 0 to 70 degC, 24-Pin SOIC (W24-3); Generic Part Number: MAX260; PartNumber: MAX260BCWG; Filter Sections: 2; Program Method: uP Bus; DatasheetVersion: Rev. 2; PackageVersion: Rev. F, 10/2012; PackageReference: W24-3; PackageDescription: 24-Pin Small-Outline IC, Wide (0.3in) (W24-3), Body 15.4 x 7.5 mm, Pitch 1.27 mm; Supplier 1: Mouser; Supplier Part Number 1: N/A; Filter Characteristic: Programmable; Filter Class: Switched Cap; Filter Type: Universal; Order Per Filter Section: 2; Mounting Technology: Surface Mount; Code_JEDEC: MS013; ComponentLink1Description: Manufacturer URL; ComponentLink1URL: http://www.maximintegrated.com/; ComponentLink2Description: Datasheet; ComponentLink2URL: http://datasheets.maximintegrated.com/en/ds/MAX260-MAX262.pdf; ComponentLink3Description: Package Specification; ComponentLink3URL: http://pdfserv.maximintegrated.com/package_dwgs/21-0042.PDF
footprint MAXM-W24-3_N (SOIC, 24-Leads, Body 15.4x7.5mm, Pitch 1.27mm, IPC Medium Density)
footprint MAXM-W24-3_L (SOIC, 24-Leads, Body 15.4x7.5mm, Pitch 1.27mm, IPC High Density)
footprint MAXM-W24-3_M (SOIC, 24-Leads, Body 15.4x7.5mm, Pitch 1.27mm, IPC Low Density)
pins: 1 BPA (out) "Bandpass output", 2 NC, 3 HPA (out) "Highpass/notch/allpass output", 4 NC, 5 INA (in) "Filter input", 6 D1 (in) "Data input for f0 and Q programming", 7 A3 (in) "Address input for f0 and Q input data locations", 8 CLK OUT "Clock output for crystal and R-C oscillator operation", 9 V+ (power) "Positive supply voltage", 10 A2 (in) "Address input for f0 and Q input data locations", 11 CLKA "Input to the oscillator and clock input to section A. This clock is internally divided by 2.", 12 CLKB "Clock input to filter B. This clock is internally divided by 2.", 13 A1 (in) "Address input for f0 and Q input data locations", 14 HPB (out) "Highpass/notch/allpass output", 15 A0 (in) "Address input for f0 and Q input data locations", 16 ~{WR} (in) "Write enable input", 17 V- (power) "Negative supply voltage", 18 GND (power) "Analog Ground. Connect to the system ground for dual supply operation or mid-supply for single supply operation. GND should be well bypassed in single supply applications.", 19 OSC OUT "Connects to crystal or R-C for self-clocked operation", 20 D0 (in) "Data input for f0 and Q programming", 21 BPB (out) "Bandpass output", 22 LPB (out) "Lowpass output", 23 INB (in) "Filter input", 24 LPA (out) "Lowpass output"

## MAX260BCWG+
designator U?
Universal Switched Capacitor Filter, uP Bus Programmable, 0 to 70 degC, 24-Pin SOIC (W24+3), Pb-Free; Generic Part Number: MAX260; PartNumber: MAX260BCWG+; Filter Sections: 2; Program Method: uP Bus; DatasheetVersion: Rev. 2; PackageVersion: Rev. F, 10/2012; PackageReference: W24+3; PackageDescription: 24-Pin Small-Outline IC, Wide (0.3in) (W24+3), Body 15.4 x 7.5 mm, Pitch 1.27 mm; Supplier 1: Digi-Key; Supplier Part Number 1: MAX260BCWG+-ND; Supplier 2: Mouser; Supplier Part Number 2: 700-MAX260BCWG; Filter Characteristic: Programmable; Filter Class: Switched Cap; Filter Type: Universal; Order Per Filter Section: 2; RoHS: Pb-Free; Mounting Technology: Surface Mount; Code_JEDEC: MS013; ComponentLink1Description: Manufacturer URL; ComponentLink1URL: http://www.maximintegrated.com/; ComponentLink2Description: Datasheet; ComponentLink2URL: http://datasheets.maximintegrated.com/en/ds/MAX260-MAX262.pdf; ComponentLink3Description: Package Specification; ComponentLink3URL: http://pdfserv.maximintegrated.com/package_dwgs/21-0042.PDF
footprint MAXM-W24+3_N (SOIC, 24-Leads, Body 15.4x7.5mm, Pitch 1.27mm, IPC Medium Density)
footprint MAXM-W24+3_L (SOIC, 24-Leads, Body 15.4x7.5mm, Pitch 1.27mm, IPC High Density)
footprint MAXM-W24+3_M (SOIC, 24-Leads, Body 15.4x7.5mm, Pitch 1.27mm, IPC Low Density)
pins: 1 BPA (out) "Bandpass output", 2 NC, 3 HPA (out) "Highpass/notch/allpass output", 4 NC, 5 INA (in) "Filter input", 6 D1 (in) "Data input for f0 and Q programming", 7 A3 (in) "Address input for f0 and Q input data locations", 8 CLK OUT "Clock output for crystal and R-C oscillator operation", 9 V+ (power) "Positive supply voltage", 10 A2 (in) "Address input for f0 and Q input data locations", 11 CLKA "Input to the oscillator and clock input to section A. This clock is internally divided by 2.", 12 CLKB "Clock input to filter B. This clock is internally divided by 2.", 13 A1 (in) "Address input for f0 and Q input data locations", 14 HPB (out) "Highpass/notch/allpass output", 15 A0 (in) "Address input for f0 and Q input data locations", 16 ~{WR} (in) "Write enable input", 17 V- (power) "Negative supply voltage", 18 GND (power) "Analog Ground. Connect to the system ground for dual supply operation or mid-supply for single supply operation. GND should be well bypassed in single supply applications.", 19 OSC OUT "Connects to crystal or R-C for self-clocked operation", 20 D0 (in) "Data input for f0 and Q programming", 21 BPB (out) "Bandpass output", 22 LPB (out) "Lowpass output", 23 INB (in) "Filter input", 24 LPA (out) "Lowpass output"

## MAX260BCWG+T
designator U?
Universal Switched Capacitor Filter, uP Bus Programmable, 0 to 70 degC, 24-Pin SOIC (W24+3), Pb-Free, Tape and Reel; Generic Part Number: MAX260; PartNumber: MAX260BCWG+T; Filter Sections: 2; Program Method: uP Bus; DatasheetVersion: Rev. 2; PackageVersion: Rev. F, 10/2012; PackageReference: W24+3; PackageDescription: 24-Pin Small-Outline IC, Wide (0.3in) (W24+3), Body 15.4 x 7.5 mm, Pitch 1.27 mm; Supplier 1: Digi-Key; Supplier Part Number 1: MAX260BCWG+T-ND; Supplier 2: Mouser; Supplier Part Number 2: 700-MAX260BCWGT; Filter Characteristic: Programmable; Filter Class: Switched Cap; Filter Type: Universal; Order Per Filter Section: 2; Packing: Tape and Reel; RoHS: Pb-Free; Mounting Technology: Surface Mount; Code_JEDEC: MS013; ComponentLink1Description: Manufacturer URL; ComponentLink1URL: http://www.maximintegrated.com/; ComponentLink2Description: Datasheet; ComponentLink2URL: http://datasheets.maximintegrated.com/en/ds/MAX260-MAX262.pdf; ComponentLink3Description: Package Specification; ComponentLink3URL: http://pdfserv.maximintegrated.com/package_dwgs/21-0042.PDF
footprint MAXM-W24+3_N (SOIC, 24-Leads, Body 15.4x7.5mm, Pitch 1.27mm, IPC Medium Density)
footprint MAXM-W24+3_L (SOIC, 24-Leads, Body 15.4x7.5mm, Pitch 1.27mm, IPC High Density)
footprint MAXM-W24+3_M (SOIC, 24-Leads, Body 15.4x7.5mm, Pitch 1.27mm, IPC Low Density)
pins: 1 BPA (out) "Bandpass output", 2 NC, 3 HPA (out) "Highpass/notch/allpass output", 4 NC, 5 INA (in) "Filter input", 6 D1 (in) "Data input for f0 and Q programming", 7 A3 (in) "Address input for f0 and Q input data locations", 8 CLK OUT "Clock output for crystal and R-C oscillator operation", 9 V+ (power) "Positive supply voltage", 10 A2 (in) "Address input for f0 and Q input data locations", 11 CLKA "Input to the oscillator and clock input to section A. This clock is internally divided by 2.", 12 CLKB "Clock input to filter B. This clock is internally divided by 2.", 13 A1 (in) "Address input for f0 and Q input data locations", 14 HPB (out) "Highpass/notch/allpass output", 15 A0 (in) "Address input for f0 and Q input data locations", 16 ~{WR} (in) "Write enable input", 17 V- (power) "Negative supply voltage", 18 GND (power) "Analog Ground. Connect to the system ground for dual supply operation or mid-supply for single supply operation. GND should be well bypassed in single supply applications.", 19 OSC OUT "Connects to crystal or R-C for self-clocked operation", 20 D0 (in) "Data input for f0 and Q programming", 21 BPB (out) "Bandpass output", 22 LPB (out) "Lowpass output", 23 INB (in) "Filter input", 24 LPA (out) "Lowpass output"

## MAX260BCWG-T
designator U?
Universal Switched Capacitor Filter, uP Bus Programmable, 0 to 70 degC, 24-Pin SOIC (W24-3), Tape and Reel; Generic Part Number: MAX260; PartNumber: MAX260BCWG-T; Filter Sections: 2; Program Method: uP Bus; DatasheetVersion: Rev. 2; PackageVersion: Rev. F, 10/2012; PackageReference: W24-3; PackageDescription: 24-Pin Small-Outline IC, Wide (0.3in) (W24-3), Body 15.4 x 7.5 mm, Pitch 1.27 mm; Supplier 1: Mouser; Supplier Part Number 1: N/A; Filter Characteristic: Programmable; Filter Class: Switched Cap; Filter Type: Universal; Order Per Filter Section: 2; Packing: Tape and Reel; Mounting Technology: Surface Mount; Code_JEDEC: MS013; ComponentLink1Description: Manufacturer URL; ComponentLink1URL: http://www.maximintegrated.com/; ComponentLink2Description: Datasheet; ComponentLink2URL: http://datasheets.maximintegrated.com/en/ds/MAX260-MAX262.pdf; ComponentLink3Description: Package Specification; ComponentLink3URL: http://pdfserv.maximintegrated.com/package_dwgs/21-0042.PDF
footprint MAXM-W24-3_N (SOIC, 24-Leads, Body 15.4x7.5mm, Pitch 1.27mm, IPC Medium Density)
footprint MAXM-W24-3_L (SOIC, 24-Leads, Body 15.4x7.5mm, Pitch 1.27mm, IPC High Density)
footprint MAXM-W24-3_M (SOIC, 24-Leads, Body 15.4x7.5mm, Pitch 1.27mm, IPC Low Density)
pins: 1 BPA (out) "Bandpass output", 2 NC, 3 HPA (out) "Highpass/notch/allpass output", 4 NC, 5 INA (in) "Filter input", 6 D1 (in) "Data input for f0 and Q programming", 7 A3 (in) "Address input for f0 and Q input data locations", 8 CLK OUT "Clock output for crystal and R-C oscillator operation", 9 V+ (power) "Positive supply voltage", 10 A2 (in) "Address input for f0 and Q input data locations", 11 CLKA "Input to the oscillator and clock input to section A. This clock is internally divided by 2.", 12 CLKB "Clock input to filter B. This clock is internally divided by 2.", 13 A1 (in) "Address input for f0 and Q input data locations", 14 HPB (out) "Highpass/notch/allpass output", 15 A0 (in) "Address input for f0 and Q input data locations", 16 ~{WR} (in) "Write enable input", 17 V- (power) "Negative supply voltage", 18 GND (power) "Analog Ground. Connect to the system ground for dual supply operation or mid-supply for single supply operation. GND should be well bypassed in single supply applications.", 19 OSC OUT "Connects to crystal or R-C for self-clocked operation", 20 D0 (in) "Data input for f0 and Q programming", 21 BPB (out) "Bandpass output", 22 LPB (out) "Lowpass output", 23 INB (in) "Filter input", 24 LPA (out) "Lowpass output"

## MAX260BENG
designator U?
Universal Switched Capacitor Filter, uP Bus Programmable, -40 to 85 degC, 24-Pin DIP (N24-4); Generic Part Number: MAX260; PartNumber: MAX260BENG; Filter Sections: 2; Program Method: uP Bus; DatasheetVersion: Rev. 2; PackageVersion: Rev. E, 04/2011; PackageReference: N24-4; PackageDescription: 24-Pin Plastic Dual-In-Line, Narrow (0.3in) (N24-4), Body 30.545 x 6.895 mm, Pitch 2.54 mm; Supplier 1: Mouser; Supplier Part Number 1: N/A; Filter Characteristic: Programmable; Filter Class: Switched Cap; Filter Type: Universal; Order Per Filter Section: 2; Mounting Technology: Through Hole; Code_JEDEC: MS001-XX; ComponentLink1Description: Manufacturer URL; ComponentLink1URL: http://www.maximintegrated.com/; ComponentLink2Description: Datasheet; ComponentLink2URL: http://datasheets.maximintegrated.com/en/ds/MAX260-MAX262.pdf; ComponentLink3Description: Package Specification; ComponentLink3URL: http://pdfserv.maximintegrated.com/package_dwgs/21-0043.PDF
footprint MAXM-N24-4 (DIP, 24-Leads, Body 30.545x6.985mm, Pitch 2.54mm)
pins: 1 BPA (out) "Bandpass output", 2 NC, 3 HPA (out) "Highpass/notch/allpass output", 4 NC, 5 INA (in) "Filter input", 6 D1 (in) "Data input for f0 and Q programming", 7 A3 (in) "Address input for f0 and Q input data locations", 8 CLK OUT "Clock output for crystal and R-C oscillator operation", 9 V+ (power) "Positive supply voltage", 10 A2 (in) "Address input for f0 and Q input data locations", 11 CLKA "Input to the oscillator and clock input to section A. This clock is internally divided by 2.", 12 CLKB "Clock input to filter B. This clock is internally divided by 2.", 13 A1 (in) "Address input for f0 and Q input data locations", 14 HPB (out) "Highpass/notch/allpass output", 15 A0 (in) "Address input for f0 and Q input data locations", 16 ~{WR} (in) "Write enable input", 17 V- (power) "Negative supply voltage", 18 GND (power) "Analog Ground. Connect to the system ground for dual supply operation or mid-supply for single supply operation. GND should be well bypassed in single supply applications.", 19 OSC OUT "Connects to crystal or R-C for self-clocked operation", 20 D0 (in) "Data input for f0 and Q programming", 21 BPB (out) "Bandpass output", 22 LPB (out) "Lowpass output", 23 INB (in) "Filter input", 24 LPA (out) "Lowpass output"